# Altium footprint library USB.PcbLib: 12 footprints
Each footprint in its own frame and in the unit in brackets; x right, y up, seen from the top. Pads: shape width x height; smd on the part's side, far side on the other; paste and mask are expansions set on the pad; w line width, h text height; cw(c..) or ccw(c..) is an arc to the next point about the centre after c.
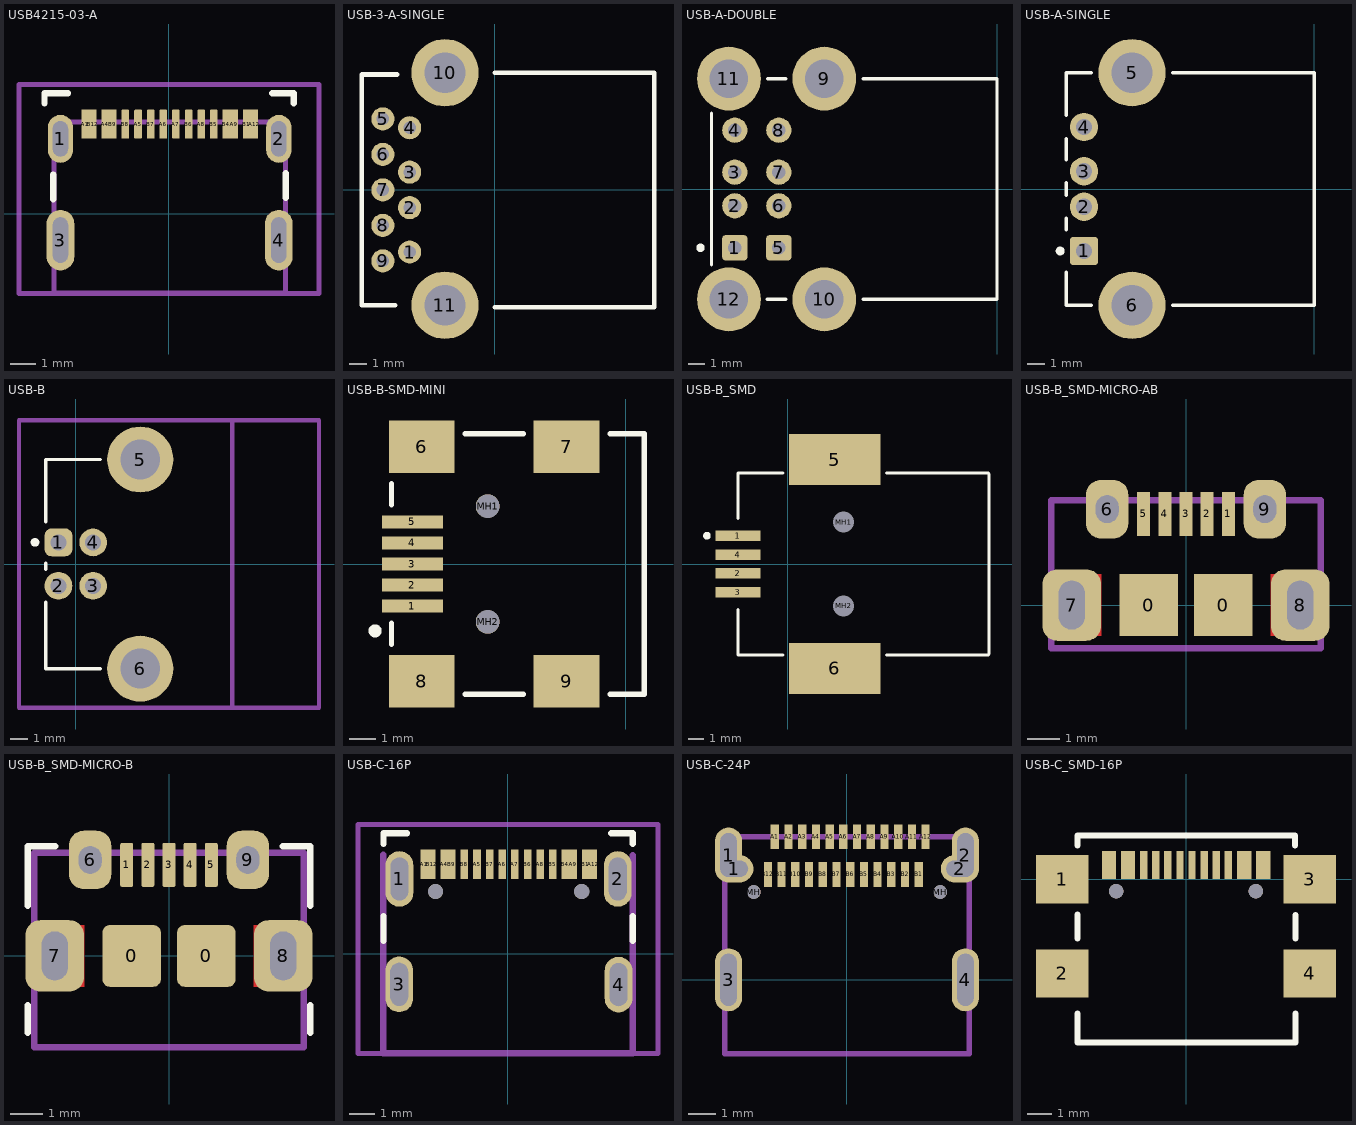
[diagram p0: the footprints below, top view; thin cyan lines are the x and y axes]

## USB4215-03-A [mm] "USB-C USB 2.0 Receptacle, 16 Positions, Right Angle; Through Hole"
height 3.16
pads (20):
  oval 1x1.9 hole 0.6 slot 1.4 at 90 deg mask+0.05: 1(-4.29,2.97) 2(4.35,2.97)
  oval 1.1x2.4 hole 0.6 slot 1.8 at 90 deg mask+0.05: 3(-4.29,-1.039) 4(4.35,-1.039)
  rect 0.3x1.15 smd mask+0.05: A1(-3.3,3.55) A4(-2.51,3.55) A9(2.58,3.55) A12(3.38,3.55) B1(3.08,3.55) B4(2.28,3.55) B9(-2.22,3.55) B12(-3.01,3.55)
  rrect25% 0.3x1.15 smd mask+0.05: A5(-1.22,3.55) A6(-0.22,3.55) A7(0.28,3.55) A8(1.28,3.55) B5(1.78,3.55) B6(0.78,3.55) B7(-0.72,3.55) B8(-1.72,3.55)
Top Overlay:
  lines w0.254: -4.92,4.37 -4.92,4.77 -3.99,4.77 ; -4.58,0.579 -4.58,1.559 ; 4.09,4.77 4.94,4.77 4.94,4.37 ; 4.624,0.633 4.624,1.613
Mechanical 13:
  lines w0.2: -4.552,-3.14 4.613,-3.14 4.611,-3.14 4.611,3.635 -4.552,3.635 -4.552,-3.14
Mechanical 15:
  lines w0.2: -5.93,-3.147 5.94,-3.147 5.94,5.117 -5.93,5.117 -5.93,-3.147
3D body "USB4215-03-A.stp": height 3.28, standoff -0.78, extent -4.44,-3.209 4.5,3.54

## USB-3-A-SINGLE [mm]
pads (11):
  round 1.3 hole 0.7: 1(-4.79,-3.5) 2(-4.79,-1) 3(-4.79,1) 4(-4.79,3.5) 5(-6.3,4) 6(-6.3,2) 7(-6.3,0) 8(-6.3,-2) 9(-6.3,-4)
  round 3.8 hole 2.3: 10(-2.8,6.6) 11(-2.8,-6.5)
Top Overlay:
  lines w0.254: -5.6,-6.5 -7.5,-6.5 -7.5,6.5 -5.5,6.5 ; 0,-6.6 9,-6.6 9,6.6 0,6.6
3D body "85r4853_1932258-1.stp": height 8.62, standoff -2.83, extent -7.5,-8.05 8.98,8.05

## USB-A-DOUBLE [mm]
height 14
pads (12):
  rrect25% 1.5x1.5 hole 0.8: 1(-15.61,-3.5) 5(-12.99,-3.5)
  round 1.5 hole 0.8: 2(-15.61,-1) 3(-15.61,1) 4(-15.61,3.5) 6(-12.99,-1) 7(-12.99,1) 8(-12.99,3.5)
  round 3.8 hole 2.3: 9(-10.28,6.57) 10(-10.28,-6.57) 11(-15.96,6.57) 12(-15.96,-6.57)
Top Overlay:
  circle w0.25: c-17.65,-3.5 r0.125
  lines w0.2: -17,-4.51 -17,4.51 ; -13.68,-6.565 -12.58,-6.565 ; -13.66,6.565 -12.58,6.565 ; -7.97,-6.565 0,-6.565 0,6.565 -7.97,6.565
3D body "usb_a-usb_a-2p-c.stp": height 15.6, standoff -3.8, extent -17,-7.85 0.598,7.85

## USB-A-SINGLE [mm]
pads (6):
  rrect25% 1.6x1.6 hole 0.92: 1(-12.99,-3.5)
  round 1.6 hole 0.92: 2(-12.99,-1) 3(-12.99,1) 4(-12.99,3.5)
  round 3.8 hole 2.3: 5(-10.28,6.57) 6(-10.28,-6.57)
Top Overlay:
  circle w0.25: c-14.34,-3.5 r0.125
  lines w0.2: -14,-4.7 -14,-6.565 -12.58,-6.565 ; -14,-2.3 -14,-1.66 ; -14,-0.34 -14,0.34 ; -14,1.66 -14,2.84 ; -14,4.16 -14,6.565 -12.58,6.565 ; -7.98,-6.565 0,-6.565 0,6.565 -7.98,6.565
3D body "USB-A-01.step": height 6.95, standoff -4.2, extent -13.827,-7.9 -0.127,7.9

## USB-B [mm]
pads (6):
  rrect50% 1.6x1.6 hole 0.92: 1(-1,1.25)
  round 1.6 hole 0.92: 2(-1,-1.25) 3(1,-1.25) 4(1,1.25)
  round 3.8 hole 2.3: 5(3.71,6.02) 6(3.71,-6.02)
Top Overlay:
  circle w0.25: c-2.35,1.25 r0.125
  lines w0.2: -1.72,-2.21 -1.72,-6.02 1.41,-6.02 ; -1.72,-0.29 -1.72,0.05 ; -1.72,2.45 -1.72,6.02 1.41,6.02
Mechanical 15:
  lines w0.254: 9,-8.27 9,8.28 ; -3.27,-8.28 14,-8.28 14,8.29 -3.27,8.29 -3.27,-8.28
3D body "67068-8001.stp": height 11, standoff -4.22, extent -2.91,-7.43 14.09,7.43

## USB-B-SMD-MINI [mm]
pads (11):
  rect 2.3x0.5 smd: 1(-8.104,-1.6) 2(-8.104,-0.8) 3(-8.104,0) 4(-8.104,0.8) 5(-8.104,1.6)
  rect 2.5x2 smd: 6(-7.75,4.45) 7(-2.25,4.45) 8(-7.75,-4.45) 9(-2.25,-4.45)
  round 0.9 hole 0.9 unplated paste+0 mask+0: MH1(-5.25,2.2) MH2(-5.25,-2.2)
Top Overlay:
  circle w0.25: c-9.525,-2.54 r0.125
  lines w0.2: -8.9,-3.05 -8.9,-2.25 ; -8.9,2.25 -8.9,3.05 ; -6.1,-4.95 -3.9,-4.95 ; -6.1,4.95 -3.9,4.95 ; -0.6,-4.95 0.7,-4.95 0.7,4.95 -0.6,4.95
3D body "uj2-mbh-1-smt.stp": height 3.9, standoff -1, extent -8.666,-4.83 0.734,4.83

## USB-B_SMD [mm]
pads (8):
  rect 3x0.7 smd: 1(-3.3,1.875) 2(-3.3,-0.625) 3(-3.3,-1.875) 4(-3.3,0.625)
  rect 6.04x3.4 smd: 5(3.12,6.92) 6(3.12,-6.92)
  round 1.1 hole 1.4: MH1(3.7,2.775) MH2(3.7,-2.775)
Top Overlay:
  circle w0.25: c-5.35,1.875 r0.125
  lines w0.2: -3.3,-3 -3.3,-6.02 -0.3,-6.02 ; -3.3,3 -3.3,6.02 -0.3,6.02 ; 6.54,-6.02 12.7,-6.02 13.3,-6.02 ; 6.54,6.02 12.7,6.02 13.3,6.02 ; 13.335,-5.969 13.335,5.969

## USB-B_SMD-MICRO-AB [mm] "ZX62RD-AB-5P8"
pads (11):
  rect 1.8x1.9 smd: 0(-1.15,0) 0(1.15,0)
  rect 0.4x1.35 smd: 1(1.3,2.8) 2(0.65,2.8) 3(0,2.8) 4(-0.65,2.8) 5(-1.3,2.8)
  rrect70% 1.3x1.8 hole 0.7 slot 0.85 at 90 deg: 6(-2.425,2.95) 9(2.425,2.95)
  rrect50% 1.8x2.2 hole 0.8 slot 1.5 at 90 deg: 7(-3.512,0) 8(3.512,0)
Top Layer:
  rectangle: -3.875,-0.95 -2.6,0.95
  region: 3.875,0.95 2.6,0.95 2.6,-0.95 3.875,-0.95
Mechanical 15:
  lines w0.2: 4.1,3.225 -4.15,3.225 -4.15,-1.325 4.15,-1.325 4.15,3.225
3D body "ZX62D-B-5PA8.stp": height 2.75, standoff -0.7, extent -4.047,-2.75 4.047,3.05

## USB-B_SMD-MICRO-B [mm] "ZX62D-B-5PA8"
pads (11):
  rrect25% 1.8x1.9 smd: 0(-1.15,0) 0(1.15,0)
  rrect25% 0.4x1.35 smd mask+0.05: 1(-1.3,2.8) 2(-0.65,2.8) 3(0,2.8) 4(0.65,2.8) 5(1.3,2.8)
  rrect70% 1.3x1.8 hole 0.7 slot 0.85 at 90 deg mask+0.05: 6(-2.425,2.95) 9(2.425,2.95)
  rrect50% 1.8x2.2 hole 0.8 slot 1.5 at 90 deg mask+0.05: 7(-3.512,0) 8(3.512,0)
Top Layer:
  rectangle: -3.875,-0.95 -2.6,0.95
  region: 3.875,0.95 2.6,0.95 2.6,-0.95 3.875,-0.95
Top Overlay:
  lines w0.2: -4.35,1.54 -4.35,3.37 -3.5,3.37 ; -4.348,-2.368 -4.348,-1.518 ; 3.5,3.37 4.35,3.37 4.35,1.54 ; 4.35,-2.36 4.35,-1.51
Mechanical 13:
  lines w0.2: -4.15,-2.81 -4.15,3.17 4.15,3.17 4.15,-2.81 -4.15,-2.81
3D body "ZX62D-B-5PA8.stp": height 2.75, standoff -0.7, extent -4.047,-2.75 4.047,3.05

## USB-C-16P [mm] "USB Type-C 16 pin"
height 3.26
pads (22):
  oval 1.1x2.2 hole 0.7 slot 1.7 at 90 deg mask+0.05: 1(-4.29,2.97) 2(4.35,2.97) 3(-4.3,-1.2) 4(4.38,-1.21)
  rect 0.3x1.15 smd mask+0.05: A1(-3.3,3.55) A4(-2.51,3.55) A5(-1.22,3.55) A6(-0.22,3.55) A7(0.28,3.55) A8(1.28,3.55) A9(2.58,3.55) A12(3.38,3.55) B1(3.08,3.55) B4(2.28,3.55) B5(1.78,3.55) B6(0.78,3.55) B7(-0.72,3.55) B8(-1.72,3.55) B9(-2.22,3.55) B12(-3.01,3.55)
  round 0.6 hole 0.6 unplated mask+0.05: ""(-2.86,2.47) ""(2.92,2.47)
Top Overlay:
  lines w0.254: -4.92,0.52 -4.92,1.5 ; -4.92,4.37 -4.92,4.77 -3.99,4.77 ; 4.09,4.77 4.94,4.77 4.94,4.37 ; 4.94,0.52 4.94,1.5
Mechanical 13:
  lines w0.254: -4.93,3.93 -4.93,-3.93 4.94,-3.93 4.94,3.91
Mechanical 15:
  lines w0.2: -5.93,-3.93 5.94,-3.93 5.94,5.117 -5.93,5.117 -5.93,-3.93
3D body "698b116-264-211.stp": height 3.25, standoff -0.91, extent -4.78,-3.79 4.8,3.918

## USB-C-24P [mm] "USB Type-C 24 pin"
height 3.26
pads (32):
  oval 1x2 hole 0.6 slot 1.6 at 90 deg mask+0.05: 1(-4.32,4.55) 2(4.32,4.55)
  oval 1.4x1 hole 0.6 slot 1 at 0 deg mask+0.05: 1(-4.11,4.05) 2(4.12,4.05)
  oval 1x2.3 hole 0.6 slot 1.9 at 90 deg mask+0.05: 3(-4.32,0) 4(4.32,0)
  rect 0.3x0.9 smd mask+0.05: A1(-2.633,5.218) A2(-2.133,5.218) A3(-1.633,5.218) A4(-1.133,5.218) A5(-0.633,5.218) A6(-0.133,5.218) A7(0.367,5.218) A8(0.867,5.218) A9(1.367,5.218) A10(1.867,5.218) A11(2.367,5.218) A12(2.867,5.218) B1(2.616,3.842) B2(2.116,3.842) B3(1.616,3.842) B4(1.116,3.842) B5(0.616,3.842) B6(0.116,3.842) B7(-0.384,3.842) B8(-0.884,3.842) B9(-1.384,3.842) B10(-1.884,3.842) B11(-2.384,3.842) B12(-2.884,3.842)
  round 0.5 hole 0.5 unplated mask+0.05: MH(-3.4,3.2) MH(3.4,3.2)
Mechanical 13:
  lines w0.2: -4.45,-2.69 4.45,-2.69 4.45,5.21 -4.45,5.21 -4.45,-2.69
3D body: height 4, standoff 0.1, extent -4.46,-2.7 4.44,5.22

## USB-C_SMD-16P [mm] "USB Type-C 16 pin"
height 3.26
pads (22):
  rect 2.18x2 smd: 1(-5.11,0) 2(-5.11,-3.9) 3(5.11,0) 4(5.11,-3.9)
  rect 0.3x1.15 smd: A1(-3.33,0.58) A4(-2.54,0.58) A5(-1.25,0.58) A6(-0.25,0.58) A7(0.25,0.58) A8(1.25,0.58) A9(2.55,0.58) A12(3.35,0.58) B1(3.05,0.58) B4(2.25,0.58) B5(1.75,0.58) B6(0.75,0.58) B7(-0.75,0.58) B8(-1.75,0.58) B9(-2.25,0.58) B12(-3.04,0.58)
  round 0.6 hole 0.6 unplated: ""(-2.89,-0.5) ""(2.89,-0.5)
Top Overlay:
  lines w0.254: -4.49,-5.55 -4.49,-6.75 4.52,-6.75 4.52,-5.55 ; -4.49,-2.45 -4.49,-1.47 ; -4.48,1.4 -4.48,1.8 4.51,1.8 4.51,1.4 ; 4.52,-2.46 4.52,-1.48